# Altium schematic symbol library Connectors.SchLib: 28 symbols
Pins are listed as number, name and electrical type; pins without a type are passive.

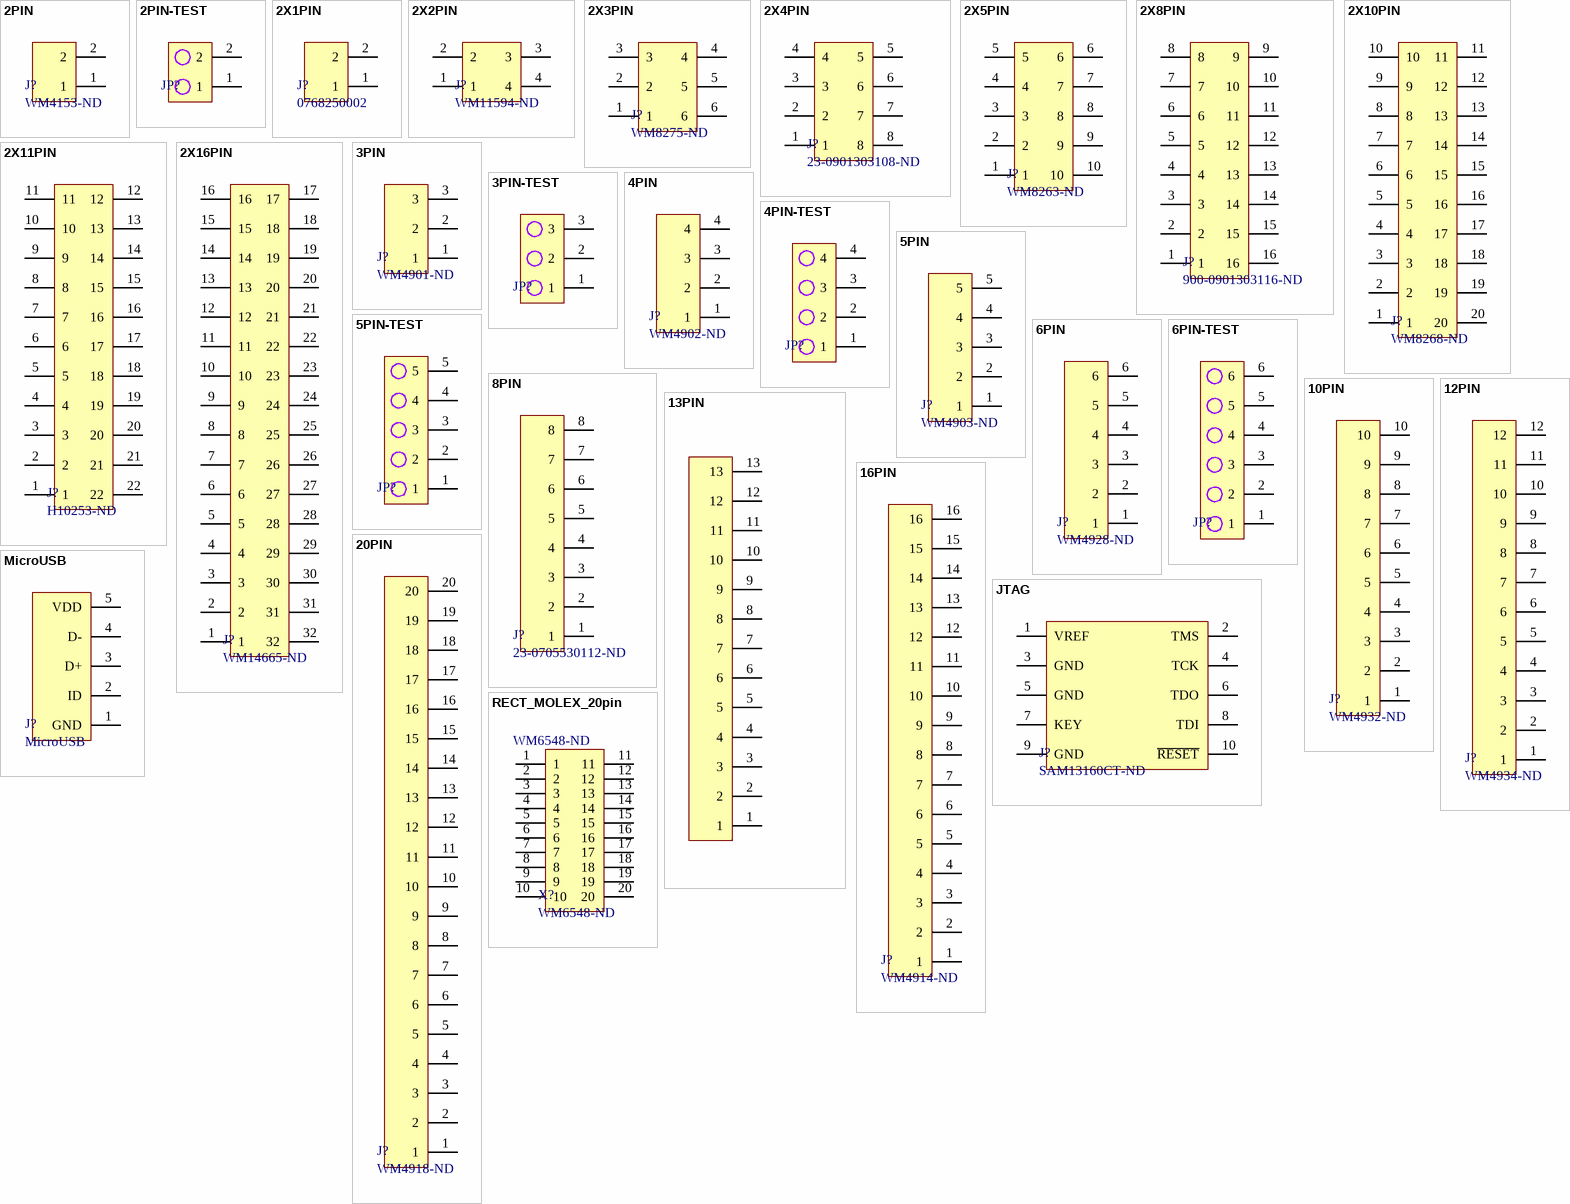
[diagram p0: symbols 2PIN to RECT_MOLEX_20pin]

## 2PIN
designator J?, comment WM4153-ND
CONN HEADER R/A 2POS 2.54MM; Manufacturer: Molex; Manufacturer Part Number: 0705530106; Number of Positions: 2; Contact Resistance: 30mR; Connector Type: Male Pin; Supplier 1: Digi-Key; Stock 1: 2224; Pricing 1: 1=1.38, 10=1.25, 100=1.071, 500=0.8925, 1000=0.765, 5000=0.6783, 10000=0.663 (USD); Mount: Through Hole; Housing Material: Polyester; Contact Plating: Gold; Contact Material: Bronze; Color: Black; Housing Color: Black; Min Operating Temperature: -40°C; Max Operating Temperature: 105°C; Number of Rows: 1; Packaging: Rail/Tube; Termination: Solder; Number of Contacts: 2; Orientation: Right Angle; Length: 7.37mm; Pitch: 2.54mm; Depth: 13.59mm; Contact Mating Length: 0.24inch; ComponentLink1URL: http://www.molex.com/webdocs/datasheets/pdf/en-us/0705530106_PCB_HEADERS.pdf?src-supplier=Avnet+Asia; ComponentLink1Description: http://www.molex.com/webdocs/datasheets/pdf/en-us/0705530106_PCB_HEADERS.pdf?src-supplier=Avnet+Asia; ComponentLink2URL: https://www.molex.com/pdm_docs/ps/PS-70400.pdf?src-supplier=Digi-Key; ComponentLink2Description: https://www.molex.com/pdm_docs/ps/PS-70400.pdf?src-supplier=Digi-Key; Supplier Part Number 1: WM4153-ND
footprint 2PIN
pins: 1, 2

## 2PIN-TEST
designator JP?, comment 732-5315-ND  (value not drawn)
CONN HEADER VERT 2POS 2.54MM
footprint 2PIN-JP
pins: 1, 2

## 2X1PIN
designator J?, comment 0768250002
CONN HEADER R/A 2POS; Manufacturer: Molex; Manufacturer Part Number: 76825-0002; Number of Circuits: 2; Gender: Male; Pitch: 5.7mm; Supplier 1: Digi-Key; Stock 1: 0; Pricing 1: 1=1.13, 10=0.993, 25=0.9344, 50=0.8956, 100=0.8567, 250=0.7788, 500=0.70092, 1000=0.62304, 2500=0.56463 (USD); Color: Black; Contact Plating: Tin; Contact Material: Copper; Termination: Through Hole; Number of Rows: 2; Orientation: Right Angle; Number of Contacts: 2; REACH SVHC: Unknown; ComponentLink1URL: http://www.farnell.com/datasheets/1968956.pdf?src-supplier=Element14; ComponentLink1Description: http://www.farnell.com/datasheets/1968956.pdf?src-supplier=Element14; ComponentLink2URL: http://www.farnell.com/datasheets/2216551.pdf?src-supplier=Newark; ComponentLink2Description: http://www.farnell.com/datasheets/2216551.pdf?src-supplier=Newark; ComponentLink3URL: http://www.farnell.com/datasheets/2216551.pdf?src-supplier=Farnell; ComponentLink3Description: http://www.farnell.com/datasheets/2216551.pdf?src-supplier=Farnell; ComponentLink4URL: https://www.molex.com/pdm_docs/sd/768250002_sd.pdf?src-supplier=Digi-Key; ComponentLink4Description: https://www.molex.com/pdm_docs/sd/768250002_sd.pdf?src-supplier=Digi-Key; ComponentLink5URL: http://www.farnell.com/datasheets/2001779.pdf?src-supplier=Element14; ComponentLink5Description: http://www.farnell.com/datasheets/2001779.pdf?src-supplier=Element14; ComponentLink6URL: http://www.alliedelec.com/images/products/datasheets/bm/BrandonData/70717238.pdf?src-supplier=Allied+Electronics; ComponentLink6Description: http://www.alliedelec.com/images/products/datasheets/bm/BrandonData/70717238.pdf?src-supplier=Allied+Electronics; Supplier Part Number 1: WM11969-ND
footprint 2X1PIN
pins: 1, 2

## 2X2PIN
designator J?, comment WM11594-ND
CONN HEADER R/A 4POS 3.5MM; Manufacturer: Molex; Manufacturer Part Number: 172316-1104; Number of Positions: 4; Gender: Male; Connector Type: Male Pin; Pitch: 0.138inch; Row Spacing: 0.181inch; Supplier 1: Digi-Key; Stock 1: 4392; Pricing 1: 1=0.93, 10=0.814, 100=0.7027, 500=0.57492, 1000=0.51104, 5000=0.44716, 10000=0.4248 (USD); Mount: Through Hole; Number of Pins: 4; Contact Plating: Tin; Color: Black; Contact Material: Copper Alloy; Packaging: Tray; Number of Rows: 2; Termination: Solder; Fastening Type: Latch; Number of Circuits: 4; Number of Contacts: 4; REACH SVHC: Unknown; ComponentLink1URL: http://www.alliedelec.com/images/products/datasheets/bm/MOLEX/70617684.pdf?src-supplier=Allied+Electronics; ComponentLink1Description: http://www.alliedelec.com/images/products/datasheets/bm/MOLEX/70617684.pdf?src-supplier=Allied+Electronics; ComponentLink2URL: http://www.farnell.com/datasheets/1944206.pdf?src-supplier=Element14; ComponentLink2Description: http://www.farnell.com/datasheets/1944206.pdf?src-supplier=Element14; ComponentLink3URL: http://www.farnell.com/datasheets/2214524.pdf?src-supplier=Farnell; ComponentLink3Description: http://www.farnell.com/datasheets/2214524.pdf?src-supplier=Farnell; ComponentLink4URL: https://www.molex.com/pdm_docs/sd/1723161104_sd.pdf?src-supplier=Digi-Key; ComponentLink4Description: https://www.molex.com/pdm_docs/sd/1723161104_sd.pdf?src-supplier=Digi-Key; ComponentLink5URL: http://www.farnell.com/datasheets/1955765.pdf?src-supplier=Element14; ComponentLink5Description: http://www.farnell.com/datasheets/1955765.pdf?src-supplier=Element14; Supplier Part Number 1: WM11594-ND
footprint 2X2PIN
pins: 1, 2, 3, 4

## 2X3PIN
designator J?, comment WM8275-ND
CONN HEADER R/A 6POS 2.54MM; Manufacturer: Molex; Manufacturer Part Number: 90130-3206; Number of Positions: 6; Max Voltage Rating (DC): 350.35kV; Gender: Male; Current Rating: 3A; Voltage Rating: 350V; Contact Resistance: 20mR; Insulation Resistance: 5GR; Contact Post Length: 2.9mm; Glow Wire Compliant: Non-compliant; Supplier 1: Digi-Key; Stock 1: 865; Pricing 1: 1=1.63, 10=1.48, 100=1.2684, 500=1.057, 1000=0.906, 5000=0.80332, 10000=0.7852 (USD); Mount: Through Hole; Color: Black; Housing Color: Black; Housing Material: Polyester; Contact Material: Brass,Copper Alloy,Copper; Contact Plating: Gold; Material: Glass,Polyester; Min Operating Temperature: -55°C; Max Operating Temperature: 125°C; Number of Rows: 2; Packaging: Tray; Termination: Through Hole; Orientation: Right Angle; Package Quantity: 2560; Number of Contacts: 6; Number of Poles: 6; Voltage Rating (AC): 350V; Contact Gender: Male; Working Voltage: 350V; Number of Circuits: 6; Voltage Rating (DC): 350V; Pitch: 2.54mm; Row Spacing: 2.54mm; Contact Mating Length: 6.75mm; Lead Pitch: 2.54mm; Radiation Hardening: No; REACH SVHC: Unknown; Lead Free: Lead Free; ComponentLink1URL: http://uk.rs-online.com/webdocs/13c4/0900766b813c4c99.pdf?src-supplier=RSComponents; ComponentLink1Description: http://uk.rs-online.com/webdocs/13c4/0900766b813c4c99.pdf?src-supplier=RSComponents; ComponentLink2URL: http://www.molex.com/webdocs/datasheets/pdf/en-us/0901303206_PCB_HEADERS.pdf?src-supplier=Avnet+Europe; ComponentLink2Description: http://www.molex.com/webdocs/datasheets/pdf/en-us/0901303206_PCB_HEADERS.pdf?src-supplier=Avnet+Europe; ComponentLink3URL: http://www.mouser.com/ds/2/276/0901303206_PCB_HEADERS-151676.pdf?src-supplier=Mouser; ComponentLink3Description: http://www.mouser.com/ds/2/276/0901303206_PCB_HEADERS-151676.pdf?src-supplier=Mouser; ComponentLink4URL: http://www.molex.com/webdocs/datasheets/pdf/en-us/0901303206_PCB_HEADERS.pdf?src-supplier=Avnet; ComponentLink4Description: http://www.molex.com/webdocs/datasheets/pdf/en-us/0901303206_PCB_HEADERS.pdf?src-supplier=Avnet; Supplier Part Number 1: WM8275-ND
footprint 2X3PIN
pins: 1, 2, 3, 4, 5, 6

## 2X4PIN
designator J?, comment 23-0901303108-ND
CONN HEADER R/A 8POS 2.54MM; Manufacturer: Molex; Manufacturer Part Number: 90130-3108; Max Voltage Rating (DC): 350.35kV; Current Rating: 3A; Voltage Rating: 350V; Number of Positions: 8; Gender: Male; Insulation Resistance: 1GR; Connector Type: Male Pin; Row Spacing: 0.1inch; Glow Wire Compliant: Non-compliant; Supplier 1: Digi-Key; Stock 1: 2697; Pricing 1: 1=1.51, 10=1.372, 100=1.176, 500=0.98, 1000=0.84, 5000=0.7448, 10000=0.728 (USD); Mount: Through Hole; Contact Plating: Tin,Lead; Contact Material: Brass; Housing Color: Black; Housing Material: Polyester; Color: Black; Min Operating Temperature: -55°C; Max Operating Temperature: 125°C; Number of Rows: 2; Packaging: Tray; Termination: Solder; Orientation: Right Angle; Package Quantity: 1; Voltage Rating (AC): 350V; Contact Gender: Male; Number of Contacts: 8; Number of Circuits: 8; Voltage Rating (DC): 350V; Pitch: 2.54mm; Contact Mating Length: 0.266inch; Radiation Hardening: No; REACH SVHC: No SVHC; Lead Free: Lead Free; Flammability Rating: UL94 V-0; ComponentLink1URL: http://www.molex.com/webdocs/datasheets/pdf/en-us/0901303108_PCB_HEADERS.pdf?src-supplier=Avnet+Europe; ComponentLink1Description: http://www.molex.com/webdocs/datasheets/pdf/en-us/0901303108_PCB_HEADERS.pdf?src-supplier=Avnet+Europe; ComponentLink2URL: http://uk.rs-online.com/webdocs/13c4/0900766b813c4c8d.pdf?src-supplier=RSComponents; ComponentLink2Description: http://uk.rs-online.com/webdocs/13c4/0900766b813c4c8d.pdf?src-supplier=RSComponents; ComponentLink3URL: https://www.molex.com/pdm_docs/sd/901303108_sd.pdf?src-supplier=Digi-Key; ComponentLink3Description: https://www.molex.com/pdm_docs/sd/901303108_sd.pdf?src-supplier=Digi-Key; ComponentLink4URL: http://www.mouser.com/ds/2/276/0901303108_PCB_HEADERS-151760.pdf?src-supplier=Mouser; ComponentLink4Description: http://www.mouser.com/ds/2/276/0901303108_PCB_HEADERS-151760.pdf?src-supplier=Mouser; Supplier Part Number 1: 23-0901303108-ND
footprint 2X4PIN
pins: 1, 2, 3, 4, 5, 6, 7, 8

## 2X5PIN
designator J?, comment WM8263-ND
CONN HEADER R/A 10POS 2.54MM; Manufacturer: Molex; Manufacturer Part Number: 90130-3110; Number of Positions: 10; Connector Type: Male Pin; Max Voltage Rating (DC): 350.35kV; Max Voltage Rating (AC): 350V; Gender: Male; Current Rating: 3A; Row Spacing: 0.1inch; Glow Wire Compliant: Non-compliant; Supplier 1: Digi-Key; Stock 1: 3596; Pricing 1: 1=1.47, 10=1.329, 100=1.1395, 500=0.94956, 1000=0.8139, 5000=0.72166, 10000=0.70538 (USD); Mount: Through Hole; Color: Black; Housing Color: Black; Housing Material: Polyester; Contact Material: Brass; Contact Plating: Tin,Lead; Min Operating Temperature: -55°C; Max Operating Temperature: 125°C; Number of Rows: 2; Packaging: Tray; Termination: Solder; Orientation: Right Angle; Number of Contacts: 10; Package Quantity: 1; Voltage Rating: 350V; Number of Circuits: 10; Voltage Rating (DC): 350V; Length: 15.42mm; Pitch: 2.54mm; Depth: 9.75mm; Contact Mating Length: 0.266inch; Radiation Hardening: No; Flammability Rating: UL94 V-0; REACH SVHC: No SVHC; Lead Free: Lead Free; ComponentLink1URL: http://www.mouser.com/ds/2/276/0901303110_PCB_HEADERS-151522.pdf?src-supplier=Mouser; ComponentLink1Description: http://www.mouser.com/ds/2/276/0901303110_PCB_HEADERS-151522.pdf?src-supplier=Mouser; ComponentLink2URL: http://uk.rs-online.com/webdocs/13c4/0900766b813c4c8e.pdf?src-supplier=RSComponents; ComponentLink2Description: http://uk.rs-online.com/webdocs/13c4/0900766b813c4c8e.pdf?src-supplier=RSComponents; ComponentLink3URL: http://www.molex.com/webdocs/datasheets/pdf/en-us/0901303110_PCB_HEADERS.pdf?src-supplier=Avnet; ComponentLink3Description: http://www.molex.com/webdocs/datasheets/pdf/en-us/0901303110_PCB_HEADERS.pdf?src-supplier=Avnet; ComponentLink4URL: http://www.molex.com/pdm_docs/sd/901303110_sd.pdf?src-supplier=Digi-Key; ComponentLink4Description: http://www.molex.com/pdm_docs/sd/901303110_sd.pdf?src-supplier=Digi-Key; ComponentLink5URL: http://www.molex.com/webdocs/datasheets/pdf/en-us/0901303110_PCB_HEADERS.pdf?src-supplier=Avnet+Europe; ComponentLink5Description: http://www.molex.com/webdocs/datasheets/pdf/en-us/0901303110_PCB_HEADERS.pdf?src-supplier=Avnet+Europe; Supplier Part Number 1: WM8263-ND
footprint 2X5PIN
pins: 1, 2, 3, 4, 5, 6, 7, 8, 9, 10

## 2X8PIN
designator J?, comment 900-0901303116-ND
CONN HEADER R/A 16POS 2.54MM; Manufacturer: Molex; Manufacturer Part Number: 90130-3116; Max Voltage Rating (DC): 350.35kV; Number of Contacts: 16; Current Rating: 3A; Voltage Rating: 350V; Gender: Male; Connector Type: Male Pin; Row Spacing: 0.1inch; Glow Wire Compliant: Non-compliant; Supplier 1: Digi-Key; Stock 1: 1915; Pricing 1: 1=1.82, 10=1.654, 100=1.4181, 500=1.18178, 1000=1.01295, 5000=0.89815, 10000=0.87789 (USD); Mount: Through Hole; Contact Material: Brass; Contact Plating: Tin,Lead; Housing Color: Black; Housing Material: Polyester; Color: Black; Min Operating Temperature: -55°C; Max Operating Temperature: 125°C; Packaging: Tray; Number of Rows: 2; Termination: Solder; Orientation: Right Angle; Package Quantity: 1; Voltage Rating (AC): 350V; Number of Positions: 16; Voltage Rating (DC): 350V; Number of Circuits: 16; Pitch: 2.54mm; Contact Mating Length: 0.266inch; Radiation Hardening: No; Lead Free: Lead Free; ComponentLink1URL: https://www.molex.com/pdm_docs/sd/901303116_sd.pdf?src-supplier=Digi-Key; ComponentLink1Description: https://www.molex.com/pdm_docs/sd/901303116_sd.pdf?src-supplier=Digi-Key; ComponentLink2URL: http://uk.rs-online.com/webdocs/13c4/0900766b813c4c91.pdf?src-supplier=RSComponents; ComponentLink2Description: http://uk.rs-online.com/webdocs/13c4/0900766b813c4c91.pdf?src-supplier=RSComponents; ComponentLink3URL: http://www.molex.com/webdocs/datasheets/pdf/en-us/0901303116_PCB_HEADERS.pdf?src-supplier=Avnet+Europe; ComponentLink3Description: http://www.molex.com/webdocs/datasheets/pdf/en-us/0901303116_PCB_HEADERS.pdf?src-supplier=Avnet+Europe; ComponentLink4URL: http://www.mouser.com/ds/2/276/0901303116_PCB_HEADERS-151568.pdf?src-supplier=Mouser; ComponentLink4Description: http://www.mouser.com/ds/2/276/0901303116_PCB_HEADERS-151568.pdf?src-supplier=Mouser; ComponentLink5URL: http://www.molex.com/webdocs/datasheets/pdf/en-us/0901303116_PCB_HEADERS.pdf?src-supplier=Avnet; ComponentLink5Description: http://www.molex.com/webdocs/datasheets/pdf/en-us/0901303116_PCB_HEADERS.pdf?src-supplier=Avnet; ComponentLink6URL: http://www.onlinecomponents.com/productFiles/mf-MOL/88590901303116_pcb_headers.pdf?src-supplier=Onlinecomponents.com; ComponentLink6Description: http://www.onlinecomponents.com/productFiles/mf-MOL/88590901303116_pcb_headers.pdf?src-supplier=Onlinecomponents.com; Supplier Part Number 1: 900-0901303116-ND
footprint 2X8PIN
pins: 1, 2, 3, 4, 5, 6, 7, 8, 9, 10, 11, 12, 13, 14, 15, 16

## 2X10PIN
designator J?, comment WM8268-ND
CONN HEADER R/A 20POS 2.54MM; Manufacturer: Molex; Manufacturer Part Number: 0901303120; Max Voltage Rating (DC): 350V; Supplier 1: Digi-Key; Stock 1: 2147; Pricing 1: 1=2.41, 10=2.19, 100=1.877, 500=1.56416, 1000=1.3407, 5000=1.18875, 10000=1.16194 (USD); Housing Color: Black; Housing Material: Polyester; Contact Plating: Tin,Lead; Contact Material: Brass; Min Operating Temperature: -55°C; Max Operating Temperature: 125°C; Number of Rows: 2; Packaging: Tray; Termination: Solder; Orientation: Right Angle; Max Voltage Rating (AC): 350V; Length: 28.12mm; Pitch: 2.54mm; Depth: 9.75mm; Supplier Part Number 1: WM8268-ND
footprint 2X10PIN
pins: 1, 2, 3, 4, 5, 6, 7, 8, 9, 10, 11, 12, 13, 14, 15, 16, 17, 18, 19, 20

## 2X11PIN
designator J?, comment H10253-ND
CONN HEADER R/A 22POS 2MM; Manufacturer: Hirose; Manufacturer Part Number: DF11-22DP-2DS(24); Number of Positions: 22; Connector Type: Male Pin; Gender: Male; Current Rating: 2A; Voltage Rating: 250V; Contact Resistance: 30mR; Row Spacing: 0.079inch; Supplier 1: Digi-Key; Stock 1: 2198; Pricing 1: 1=1.19, 10=1.046, 100=0.902, 500=0.738, 1000=0.656, 5000=0.574, 10000=0.5453 (USD); Mount: Through Hole; Contact Material: Brass,Copper Alloy,Tin; Color: Black; Contact Plating: Tin; Housing Color: Black; Housing Material: Polyamide; Min Operating Temperature: -30°C; Max Operating Temperature: 85°C; Number of Rows: 2; Packaging: Rail/Tube; Package Quantity: 20; Termination: Solder; Number of Contacts: 22; Orientation: Right Angle; Max Current Rating: 2A; Fastening Type: Detent; Length: 24mm; Height: 5mm; Pitch: 2mm; Depth: 10mm; Contact Mating Length: 0.118inch; Radiation Hardening: No; Lead Free: Lead Free; ComponentLink1URL: http://docs-usa.electrocomponents.com/techlib:/itc_doclist_US.htm?stockno=6888963&src-supplier=Allied+Electronics; ComponentLink1Description: http://docs-usa.electrocomponents.com/techlib:/itc_doclist_US.htm?stockno=6888963&src-supplier=Allied+Electronics; ComponentLink2URL: https://www.verical.com/server-webapp/html/getDatasheet?partID=456315&src-supplier=Verical; ComponentLink2Description: https://www.verical.com/server-webapp/html/getDatasheet?partID=456315&src-supplier=Verical; ComponentLink3URL: http://www.hirose.co.jp/cataloge_hp/en_DF11_20130411.pdf?src-supplier=Future+Electronics; ComponentLink3Description: http://www.hirose.co.jp/cataloge_hp/en_DF11_20130411.pdf?src-supplier=Future+Electronics; ComponentLink4URL: http://www.farnell.com/datasheets/91550.pdf?src-supplier=Element14; ComponentLink4Description: http://www.farnell.com/datasheets/91550.pdf?src-supplier=Element14; ComponentLink5URL: http://www.mouser.com/ds/2/185/DF11_catalog-1064296.pdf?src-supplier=Mouser; ComponentLink5Description: http://www.mouser.com/ds/2/185/DF11_catalog-1064296.pdf?src-supplier=Mouser; ComponentLink6URL: http://documents.rs-components.com/techlib://itc_doclist_GB.htm?stockno=6056598&src-supplier=RSComponents; ComponentLink6Description: http://documents.rs-components.com/techlib://itc_doclist_GB.htm?stockno=6056598&src-supplier=RSComponents; Supplier Part Number 1: H10253-ND
footprint 2X11PIN
pins: 1, 2, 3, 4, 5, 6, 7, 8, 9, 10, 11, 12, 13, 14, 15, 16, 17, 18, 19, 20, 21, 22

## 2X16PIN
designator J?, comment WM14665-ND
CONN HEADER R/A 32POS 2MM; Manufacturer: Molex; Manufacturer Part Number: 55959-3230; Number of Positions: 32; Current Rating: 3A; Voltage Rating: 250V; Insulation Resistance: 1GR; Row Spacing: 2.5mm; Glow Wire Compliant: Non-compliant; Supplier 1: Digi-Key; Stock 1: 1829; Pricing 1: 1=1.97, 10=1.789, 100=1.533, 500=1.2775, 1000=1.095, 5000=0.9709, 10000=0.949 (USD); Mount: Through Hole; Contact Plating: Tin; Contact Material: Brass; Color: White; Housing Material: Polyester; Min Operating Temperature: -25°C; Max Operating Temperature: 85°C; Number of Rows: 2; Packaging: Tray; Termination: Solder; Number of Contacts: 32; Orientation: Right Angle; Contact Gender: Male; Voltage Rating (DC): 250V; Number of Circuits: 32; Pitch: 2mm; Radiation Hardening: No; REACH SVHC: No SVHC; Flammability Rating: UL94 V-0; ComponentLink1URL: http://www.mouser.com/ds/2/276/0559593230_PCB_HEADERS-171261.pdf?src-supplier=Mouser; ComponentLink1Description: http://www.mouser.com/ds/2/276/0559593230_PCB_HEADERS-171261.pdf?src-supplier=Mouser; ComponentLink2URL: http://www.molex.com/webdocs/datasheets/pdf/en-us/0559593230_PCB_HEADERS.pdf?src-supplier=Avnet; ComponentLink2Description: http://www.molex.com/webdocs/datasheets/pdf/en-us/0559593230_PCB_HEADERS.pdf?src-supplier=Avnet; ComponentLink3URL: http://www.molex.com/webdocs/datasheets/pdf/en-us/0559593230_PCB_HEADERS.pdf?src-supplier=Avnet+Europe; ComponentLink3Description: http://www.molex.com/webdocs/datasheets/pdf/en-us/0559593230_PCB_HEADERS.pdf?src-supplier=Avnet+Europe; Supplier Part Number 1: WM14665-ND
footprint 2X16PIN
pins: 1, 2, 3, 4, 5, 6, 7, 8, 9, 10, 11, 12, 13, 14, 15, 16, 17, 18, 19, 20, 21, 22, 23, 24, 25, 26, 27, 28, 29, 30, 31, 32

## 3PIN
designator J?, comment WM4901-ND
CONN HEADER R/A 3POS 2.54MM; Manufacturer: Molex; Manufacturer Part Number: 70553-0002; Gender: Male; Number of Positions: 3; Contact Resistance: 30mR; Current Rating: 3A; Voltage Rating: 250V; Insulation Resistance: 1GR; Approvals: UL,CSA; Glow Wire Compliant: Non-compliant; Supplier 1: Digi-Key; Stock 1: 2903; Pricing 1: 1=1.02, 10=0.893, 100=0.7702, 500=0.63018, 1000=0.56016, 5000=0.49014, 10000=0.46563 (USD); Mount: Through Hole; Housing Color: Black; Housing Material: Thermoplastic; Color: Black; Contact Plating: Gold; Contact Material: Bronze,Brass,Copper Alloy; Material: Brass; Min Operating Temperature: -40°C; Max Operating Temperature: 105°C; Packaging: Rail/Tube; Termination: Solder; Orientation: Right Angle; Number of Rows: 1; Package Quantity: 2080; Number of Contacts: 3; Contact Gender: Male; Number of Circuits: 3; Voltage Rating (DC): 250V; Pitch: 2.54mm; Radiation Hardening: No; Lead Free: Lead Free; REACH SVHC: Unknown; ELV: Compliant; Flammability Rating: UL94 V-0; ComponentLink1URL: http://www.molex.com/webdocs/datasheets/pdf/en-us/0705530002_PCB_HEADERS.pdf?src-supplier=Avnet; ComponentLink1Description: http://www.molex.com/webdocs/datasheets/pdf/en-us/0705530002_PCB_HEADERS.pdf?src-supplier=Avnet; ComponentLink2URL: http://www.onlinecomponents.com/productFiles/mf-MOL/209530705530002_pcb_headers.pdf?src-supplier=Onlinecomponents.com; ComponentLink2Description: http://www.onlinecomponents.com/productFiles/mf-MOL/209530705530002_pcb_headers.pdf?src-supplier=Onlinecomponents.com; ComponentLink3URL: http://uk.rs-online.com/webdocs/1362/0900766b81362e0f.pdf?src-supplier=RSComponents; ComponentLink3Description: http://uk.rs-online.com/webdocs/1362/0900766b81362e0f.pdf?src-supplier=RSComponents; ComponentLink4URL: http://www.jameco.com/Jameco/Products/ProdDS/1933671.pdf?src-supplier=Jameco; ComponentLink4Description: http://www.jameco.com/Jameco/Products/ProdDS/1933671.pdf?src-supplier=Jameco; ComponentLink5URL: http://www.mouser.com/ds/2/276/0705530002_PCB_HEADERS-172778.pdf?src-supplier=Mouser; ComponentLink5Description: http://www.mouser.com/ds/2/276/0705530002_PCB_HEADERS-172778.pdf?src-supplier=Mouser; Supplier Part Number 1: WM4901-ND
footprint 3PIN
pins: 1, 2, 3

## 3PIN-TEST
designator JP?, comment 732-5316-ND  (value not drawn)
CONN HEADER VERT 3POS 2.54MM
footprint 3PIN-JP
pins: 1, 2, 3

## 4PIN
designator J?, comment WM4902-ND
CONN HEADER R/A 4POS 2.54MM; Manufacturer: Molex; Manufacturer Part Number: 70553-0003; Number of Positions: 4; Gender: Male; Current Rating: 3A; Voltage Rating: 250V; Contact Resistance: 30mR; Insulation Resistance: 1GR; Approvals: UL,CSA; Glow Wire Compliant: Non-compliant; Supplier 1: Digi-Key; Stock 1: 4238; Pricing 1: 1=1.05, 10=0.927, 100=0.7995, 500=0.65412, 1000=0.58144, 5000=0.50876, 10000=0.48332 (USD); Mount: Through Hole; Color: Black; Housing Color: Black; Housing Material: Polycyclohexylenedimethylene; Contact Material: Bronze,Copper Alloy; Contact Plating: Gold; Material: Brass; Min Operating Temperature: -40°C; Max Operating Temperature: 105°C; Packaging: Rail/Tube; Termination: Through Hole; Number of Rows: 1; Orientation: Right Angle; Package Quantity: 1680; Number of Contacts: 4; Number of Circuits: 4; Voltage Rating (DC): 250V; Pitch: 2.54mm; REACH SVHC: Unknown; ELV: Compliant; Lead Free: Lead Free; Flammability Rating: UL94 V-0; ComponentLink1URL: http://www.molex.com/webdocs/datasheets/pdf/en-us/0705530003_PCB_HEADERS.pdf?src-supplier=Mouser; ComponentLink1Description: http://www.molex.com/webdocs/datasheets/pdf/en-us/0705530003_PCB_HEADERS.pdf?src-supplier=Mouser; ComponentLink2URL: http://www.jameco.com/Jameco/Products/ProdDS/884758.pdf?src-supplier=Jameco; ComponentLink2Description: http://www.jameco.com/Jameco/Products/ProdDS/884758.pdf?src-supplier=Jameco; ComponentLink3URL: http://uk.rs-online.com/webdocs/13c4/0900766b813c4977.pdf?src-supplier=RSComponents; ComponentLink3Description: http://uk.rs-online.com/webdocs/13c4/0900766b813c4977.pdf?src-supplier=RSComponents; Supplier Part Number 1: WM4902-ND
footprint 4PIN
pins: 1, 2, 3, 4

## 4PIN-TEST
designator JP?, comment 732-5317-ND  (value not drawn)
CONN HEADER VERT 4POS 2.54MM
footprint 4PIN-JP
pins: 1, 2, 3, 4

## 5PIN
designator J?, comment WM4903-ND
CONN HEADER R/A 5POS 2.54MM; Manufacturer: Molex; Manufacturer Part Number: 0705530004; Number of Positions: 5; Connector Type: Male Pin; Contact Resistance: 30mR; Supplier 1: Digi-Key; Stock 1: 2739; Pricing 1: 1=1.39, 10=1.22, 100=1.0527, 500=0.86134, 1000=0.76563, 5000=0.66993, 10000=0.63643 (USD); Mount: Through Hole; Color: Black; Housing Color: Black; Housing Material: Polyester; Contact Plating: Gold; Contact Material: Bronze; Min Operating Temperature: -40°C; Max Operating Temperature: 105°C; Packaging: Rail/Tube; Number of Rows: 1; Termination: Solder; Number of Contacts: 5; Orientation: Right Angle; Fastening Type: Latch; Length: 15.25mm; Pitch: 2.54mm; Depth: 13.59mm; Contact Mating Length: 0.24inch; ComponentLink1URL: https://www.molex.com/pdm_docs/ps/PS-70400.pdf?src-supplier=Digi-Key; ComponentLink1Description: https://www.molex.com/pdm_docs/ps/PS-70400.pdf?src-supplier=Digi-Key; ComponentLink2URL: http://components.arrow.com/part/dataview/2934370S3514244N3303?src-supplier=Arrow; ComponentLink2Description: http://components.arrow.com/part/dataview/2934370S3514244N3303?src-supplier=Arrow; Supplier Part Number 1: WM4903-ND
footprint 5PIN
pins: 1, 2, 3, 4, 5

## 5PIN-TEST
designator JP?, comment 732-5318-ND  (value not drawn)
CONN HEADER VERT 5POS 2.54MM
footprint 5PIN-JP
pins: 1, 2, 3, 4, 5

## 6PIN
designator J?, comment WM4928-ND
CONN HEADER R/A 6POS 2.54MM; Manufacturer: Molex; Manufacturer Part Number: 70553-0040; Contact Resistance: 30mR; Number of Positions: 6; Current Rating: 3A; Voltage Rating: 250V; Gender: Male; Insulation Resistance: 1GR; Glow Wire Compliant: Non-compliant; Supplier 1: Digi-Key; Stock 1: 2212; Pricing 1: 1=1.58, 10=1.434, 100=1.2289, 500=1.0241, 1000=0.8778, 5000=0.77832, 10000=0.76076 (USD); Mount: Through Hole; Contact Material: Bronze,Copper Alloy,Brass; Contact Plating: Tin; Housing Color: Black; Color: Black; Housing Material: Thermoplastic; Material: Brass; Min Operating Temperature: -40°C; Max Operating Temperature: 105°C; Number of Rows: 1; Packaging: Rail/Tube; Termination: Solder; Number of Contacts: 6; Orientation: Right Angle; Package Quantity: 1200; Max Current Rating: 3A; Max Voltage Rating (AC): 250V; Voltage Rating (DC): 250V; Number of Circuits: 6; Length: 17.79mm; Height: 6.99mm; Pitch: 2.54mm; Depth: 13.59mm; Radiation Hardening: No; REACH SVHC: Unknown; ELV: Compliant; Lead Free: Lead Free; Flammability Rating: UL94 V-0; ComponentLink1URL: http://uk.rs-online.com/webdocs/13c4/0900766b813c4993.pdf?src-supplier=RSComponents; ComponentLink1Description: http://uk.rs-online.com/webdocs/13c4/0900766b813c4993.pdf?src-supplier=RSComponents; ComponentLink2URL: http://www.molex.com/webdocs/datasheets/pdf/en-us/0705530040_PCB_HEADERS.pdf?src-supplier=Avnet+Europe; ComponentLink2Description: http://www.molex.com/webdocs/datasheets/pdf/en-us/0705530040_PCB_HEADERS.pdf?src-supplier=Avnet+Europe; ComponentLink3URL: http://www.farnell.com/datasheets/1844551.pdf?src-supplier=Farnell; ComponentLink3Description: http://www.farnell.com/datasheets/1844551.pdf?src-supplier=Farnell; ComponentLink4URL: http://www.mouser.com/ds/2/276/0705530040_PCB_HEADERS-172948.pdf?src-supplier=Mouser; ComponentLink4Description: http://www.mouser.com/ds/2/276/0705530040_PCB_HEADERS-172948.pdf?src-supplier=Mouser; ComponentLink5URL: http://www.farnell.com/cad/655744.pdf?src-supplier=Element14; ComponentLink5Description: http://www.farnell.com/cad/655744.pdf?src-supplier=Element14; ComponentLink6URL: http://www.jameco.com/Jameco/Products/ProdDS/1302975.pdf?src-supplier=Jameco; ComponentLink6Description: http://www.jameco.com/Jameco/Products/ProdDS/1302975.pdf?src-supplier=Jameco; Supplier Part Number 1: WM4928-ND
footprint 6PIN
pins: 1, 2, 3, 4, 5, 6

## 6PIN-TEST
designator JP?, comment 732-5319-ND  (value not drawn)
CONN HEADER VERT 6POS 2.54MM
footprint 6PIN-JP
pins: 1, 2, 3, 4, 5, 6

## 8PIN
designator J?, comment 23-0705530112-ND
CONN HEADER R/A 8POS 2.54MM; Manufacturer: Molex; Manufacturer Part Number: 70553-0112; Contact Resistance: 30mR; Current Rating: 3A; Voltage Rating: 250V; Number of Positions: 8; Insulation Resistance: 1GR; Connector Type: Male Pin; Glow Wire Compliant: Non-compliant; Supplier 1: Digi-Key; Stock 1: 1363; Pricing 1: 1=2.43, 10=2.205, 100=1.89, 500=1.575, 1000=1.35, 5000=1.197, 10000=1.17 (USD); Mount: Through Hole; Color: Black; Contact Material: Bronze; Contact Plating: Gold; Material: Brass; Housing Material: Thermoplastic; Min Operating Temperature: -40°C; Max Operating Temperature: 105°C; Package Quantity: 1; Number of Rows: 1; Packaging: Rail/Tube; Termination: Solder; Number of Contacts: 8; Orientation: Right Angle; Voltage Rating (DC): 250V; Number of Circuits: 8; Pitch: 2.54mm; Contact Mating Length: 0.24inch; ELV: Compliant; Flammability Rating: UL94 V-0; ComponentLink1URL: https://www.molex.com/pdm_docs/ps/PS-70400.pdf?src-supplier=Digi-Key; ComponentLink1Description: https://www.molex.com/pdm_docs/ps/PS-70400.pdf?src-supplier=Digi-Key; ComponentLink2URL: http://www.mouser.com/ds/2/276/0705530112_PCB_HEADERS-172840.pdf?src-supplier=Mouser; ComponentLink2Description: http://www.mouser.com/ds/2/276/0705530112_PCB_HEADERS-172840.pdf?src-supplier=Mouser; Supplier Part Number 1: 23-0705530112-ND
footprint 8PIN
pins: 1, 2, 3, 4, 5, 6, 7, 8

## 10PIN
designator J?, comment WM4932-ND
CONN HEADER R/A 10POS 2.54MM; Manufacturer: Molex; Manufacturer Part Number: 0705530044; Number of Positions: 10; Gender: Male; Contact Resistance: 30mR; Connector Type: Male Pin; Supplier 1: Digi-Key; Stock 1: 1173; Pricing 1: 1=2.61, 10=2.367, 100=2.0288, 500=1.69068, 1000=1.44915, 5000=1.28491 (USD); Mount: Through Hole; Housing Material: Polyester; Housing Color: Black; Contact Plating: Tin; Contact Material: Bronze; Color: Black; Min Operating Temperature: -40°C; Max Operating Temperature: 105°C; Number of Rows: 1; Packaging: Rail/Tube; Termination: Solder; Orientation: Right Angle; Number of Contacts: 10; Length: 27.95mm; Pitch: 2.54mm; Depth: 13.59mm; Contact Mating Length: 0.24inch; ComponentLink1URL: http://www.molex.com/webdocs/datasheets/pdf/en-us/0705530044_PCB_HEADERS.pdf?src-supplier=Avnet; ComponentLink1Description: http://www.molex.com/webdocs/datasheets/pdf/en-us/0705530044_PCB_HEADERS.pdf?src-supplier=Avnet; Supplier Part Number 1: WM4932-ND
footprint 10PIN
pins: 1, 2, 3, 4, 5, 6, 7, 8, 9, 10

## 12PIN
designator J?, comment WM4934-ND
CONN HEADER R/A 12POS 2.54MM; Manufacturer: Molex; Manufacturer Part Number: 70553-0046; Number of Positions: 12; Gender: Male; Contact Resistance: 30mR; Current Rating: 3A; Voltage Rating: 250V; Glow Wire Compliant: Non-compliant; Supplier 1: Digi-Key; Stock 1: 1279; Pricing 1: 1=3.15, 10=3.027, 100=2.5224, 500=2.14404, 1000=1.82874, 5000=1.63956 (USD); Mount: Through Hole; Color: Black; Housing Color: Black; Housing Material: Thermoplastic; Contact Material: Bronze,Copper Alloy; Contact Plating: Tin; Material: Brass; Min Operating Temperature: -40°C; Max Operating Temperature: 105°C; Number of Rows: 1; Packaging: Rail/Tube; Termination: Through Hole; Orientation: Right Angle; Number of Contacts: 12; Package Quantity: 640; Number of Circuits: 12; Voltage Rating (DC): 250V; Pitch: 2.54mm; REACH SVHC: Unknown; ELV: Compliant; Flammability Rating: UL94 V-0; ComponentLink1URL: http://www.mouser.com/ds/2/276/0705530046_PCB_HEADERS-172704.pdf?src-supplier=Mouser; ComponentLink1Description: http://www.mouser.com/ds/2/276/0705530046_PCB_HEADERS-172704.pdf?src-supplier=Mouser; Supplier Part Number 1: WM4934-ND
footprint 12PIN
pins: 1, 2, 3, 4, 5, 6, 7, 8, 9, 10, 11, 12

## 13PIN
designator J?, comment WM4911-ND
CONN HEADER R/A 13POS 2.54MM; Manufacturer: Molex; Manufacturer Part Number: 0705530012; Description: CONN HEADER 13POS .100 R/A GOLD; Contact Resistance: 30mR; Number of Positions: 13; Gender: Male; Connector Type: Male Pin; Pitch: 0.1inch; Supplier 1: Digi-Key; Stock 1: 22; Pricing 1: 1=6.09, 10=5.355, 100=4.2597, 1000=3.52944 (USD); Mount: Through Hole; Contact Material: Bronze; Contact Plating: Gold; Housing Color: Black; Housing Material: Polyester; Color: Black; Min Operating Temperature: -40°C; Max Operating Temperature: 105°C; Package Quantity: 1; Packaging: Rail/Tube; Number of Rows: 1; Termination: Solder; Orientation: Right Angle; Length: 35.57mm; Contact Mating Length: 0.24inch; Depth: 13.59mm; Supplier Part Number 1: WM4911-ND
footprint 13PIN
pins: 1, 2, 3, 4, 5, 6, 7, 8, 9, 10, 11, 12, 13

## 16PIN
designator J?, comment WM4914-ND
CONN HEADER R/A 16POS 2.54MM; Manufacturer: Molex; Manufacturer Part Number: 0705530015; Number of Positions: 16; Connector Type: Male Pin; Contact Resistance: 30mR; Pitch: 0.1inch; Supplier 1: Digi-Key; Stock 1: 225; Pricing 1: 1=8.86, 10=8.47, 100=7.1225, 500=5.9675, 1000=5.2745 (USD); Mount: Through Hole; Housing Material: Polyester; Contact Plating: Gold; Contact Material: Bronze; Color: Black; Housing Color: Black; Min Operating Temperature: -40°C; Max Operating Temperature: 105°C; Packaging: Rail/Tube; Number of Rows: 1; Termination: Solder; Orientation: Right Angle; Length: 43.19mm; Depth: 13.59mm; Contact Mating Length: 0.24inch; Radiation Hardening: No; ComponentLink1URL: http://www.molex.com/pdm_docs/sd/705530015_sd.pdf?src-supplier=Digi-Key; ComponentLink1Description: http://www.molex.com/pdm_docs/sd/705530015_sd.pdf?src-supplier=Digi-Key; ComponentLink2URL: http://www.molex.com/webdocs/datasheets/pdf/en-us/0705530015_PCB_HEADERS.pdf?src-supplier=Avnet; ComponentLink2Description: http://www.molex.com/webdocs/datasheets/pdf/en-us/0705530015_PCB_HEADERS.pdf?src-supplier=Avnet; Supplier Part Number 1: WM4914-ND
footprint 16PIN
pins: 1, 2, 3, 4, 5, 6, 7, 8, 9, 10, 11, 12, 13, 14, 15, 16

## 20PIN
designator J?, comment WM4918-ND
CONN HEADER R/A 20POS 2.54MM; Manufacturer: Molex; Manufacturer Part Number: 0705530019; Number of Positions: 20; Gender: Male; Connector Type: Male Pin; Contact Resistance: 30mR; Supplier 1: Digi-Key; Stock 1: 822; Pricing 1: 1=6.08, 10=5.831, 100=4.8168, 500=4.05626, 1000=3.54922 (USD); Mount: Through Hole; Housing Material: Polyester; Contact Plating: Gold; Contact Material: Bronze; Color: Black; Housing Color: Black; Min Operating Temperature: -40°C; Max Operating Temperature: 105°C; Packaging: Rail/Tube; Number of Rows: 1; Termination: Solder; Package Quantity: 1; Number of Contacts: 20; Orientation: Right Angle; Length: 53.35mm; Pitch: 2.54mm; Depth: 13.59mm; Contact Mating Length: 0.24inch; ComponentLink1URL: http://www.molex.com/webdocs/datasheets/pdf/en-us/0705530019_PCB_HEADERS.pdf?src-supplier=Avnet; ComponentLink1Description: http://www.molex.com/webdocs/datasheets/pdf/en-us/0705530019_PCB_HEADERS.pdf?src-supplier=Avnet; ComponentLink2URL: http://www.molex.com/pdm_docs/sd/705530019_sd.pdf?src-supplier=Digi-Key; ComponentLink2Description: http://www.molex.com/pdm_docs/sd/705530019_sd.pdf?src-supplier=Digi-Key; ComponentLink3URL: http://www.molex.com/webdocs/datasheets/pdf/en-us/0705530044_PCB_HEADERS.pdf?src-supplier=Avnet; ComponentLink3Description: http://www.molex.com/webdocs/datasheets/pdf/en-us/0705530044_PCB_HEADERS.pdf?src-supplier=Avnet; Supplier Part Number 1: WM4918-ND
footprint 20PIN
pins: 1, 2, 3, 4, 5, 6, 7, 8, 9, 10, 11, 12, 13, 14, 15, 16, 17, 18, 19, 20

## JTAG
designator J?, comment SAM13160CT-ND
CONN HEADER SMD 10POS 1.27MM; Manufacturer: Samtec; Manufacturer Part Number: FTSH-105-01-F-DV-K-TR; Max Current Rating: 1.75A; Number of Contacts: 10; Supplier 1: Digi-Key; Stock 1: 4001; Pricing 1: 1=3.36, 10=3.221, 100=2.684 (USD); Contact Plating: Gold; Contact Material: Bronze; Housing Color: Black; Housing Material: Polymer; Min Operating Temperature: -55°C; Max Operating Temperature: 125°C; Number of Rows: 2; Packaging: Tape and Reel; Termination: Solder; Orientation: Straight; Length: 6.35mm; Pitch: 1.27mm; Depth: 3.43mm; Radiation Hardening: No; Lead Free: Lead Free; ComponentLink1URL: http://www.samtec.com/documents/webfiles/pdf/ftsh_mt.pdf?src-supplier=Avnet+Europe; ComponentLink1Description: http://www.samtec.com/documents/webfiles/pdf/ftsh_mt.pdf?src-supplier=Avnet+Europe; ComponentLink2URL: http://www.samtec.com/documents/webfiles/pdf/ftsh_mt.pdf?src-supplier=Avnet; ComponentLink2Description: http://www.samtec.com/documents/webfiles/pdf/ftsh_mt.pdf?src-supplier=Avnet; ComponentLink3URL: https://www.verical.com/server-webapp/html/getDatasheet?partID=314617&src-supplier=Verical; ComponentLink3Description: https://www.verical.com/server-webapp/html/getDatasheet?partID=314617&src-supplier=Verical; Supplier Part Number 1: SAM13160DKR-ND
footprint JTAG
pins: 1 VREF, 2 TMS, 3 GND, 4 TCK, 5 GND, 6 TDO, 7 KEY, 8 TDI, 9 GND, 10 ~{RESET}

## MicroUSB
designator J?
CONN RCPT USB2.0 MICRO B SMD R/A; Manufacturer: Amphenol FCI; Manufacturer Part Number: 10118192-0002LF; Supplier 1: Digi-Key; Stock 1: 5768; Pricing 1: 1=0.46, 10=0.435, 25=0.3724, 50=0.3166, 100=0.3043, 250=0.2732, 500=0.2608 (USD); Number of Pins: 4; ComponentLink1URL: http://www.amphenol-icc.com/media/wysiwyg/files/drawing/10118192.pdf?src-supplier=Digi-Key; ComponentLink1Description: http://www.amphenol-icc.com/media/wysiwyg/files/drawing/10118192.pdf?src-supplier=Digi-Key; Supplier Part Number 1: 609-5379-6-ND
footprint MicroUSB
pins: 1 GND, 2 ID, 3 D+, 4 D-, 5 VDD

## RECT_MOLEX_20pin
designator X?, comment WM6548-ND
Connector Header Through Hole 20 position 0.100" (2.54mm); Supplier 1: Digi-Key; ComponentLink1Description: https://www.digikey.ca/en/products/detail/0702462001/WM6548-ND/760170?utm_campaign=buynow&utm_medium=aggregator&curr=cad&utm_source=octopart; ComponentLink1URL: https://www.digikey.ca/en/products/detail/0702462001/WM6548-ND/760170?utm_campaign=buynow&utm_medium=aggregator&curr=cad&utm_source=octopart; Supplier Part Number 1: WM6548-ND
footprint MOLEX_20pin(RECT) (CONN HEADER VERT 20POS 2.54MM)
pins: 1, 2, 3, 4, 5, 6, 7, 8, 9, 10, 11, 12, 13, 14, 15, 16, 17, 18, 19, 20